# EAGLE library part MTA15-156 (library con-amp_edit)
AMP connector
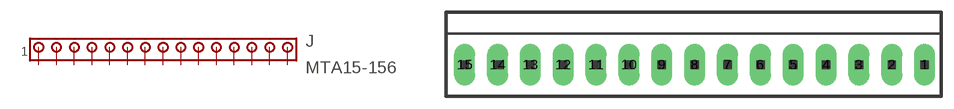
[diagram p117: symbol with the pads of 1X15MTA; footprint 1X15MTA]

Designator prefix J

## MTA15-156  [1X15MTA]
1  1  pas
2  2  pas
3  3  pas
4  4  pas
5  5  pas
6  6  pas
7  7  pas
8  8  pas
9  9  pas
10  10  pas
11  11  pas
12  12  pas
13  13  pas
14  14  pas
15  15  pas

## Footprint 1X15MTA (pad centres in mm)
AMP MTA connector
drill 1.676 long: 1 27.737,0; 2 23.774,0; 3 19.812,0; 4 15.85,0; 5 11.887,0; 6 7.925,0; 7 3.962,0; 8 0,0; 9 -3.962,0; 10 -7.925,0; 11 -11.887,0; 12 -15.85,0; 13 -19.812,0; 14 -23.774,0; 15 -27.737,0